# EAGLE library part 929974-01-06-RK (library SamacSys_Parts)
Conn Socket Strip SKT 6 POS 2.54mm Solder ST Thru-Hole Source: Datasheet <https://www.arrow.com/en/products/929974-01-06-rk/3m>
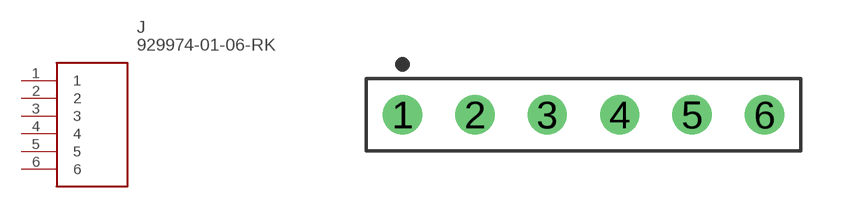
[diagram p0: symbol with the pads of 929974-01-06-RK; footprint 929974-01-06-RK]

Designator prefix J

## 929974-01-06-RK929974-01-06-RK  [929974-01-06-RK]
1  1
2  2
3  3
4  4
5  5
6  6

## Footprint 929974-01-06-RK (pad centres in mm)
Single-row, 6-pin Receptacle Header (Female) Straight, 2.54 mm (0.10 in) col pitch, 8.26 mm insulator length, 15.24 X 2.54 X 8.26 mm body Single-row (1X6), 6-pin Receptacle Header (Female) Straight package with 2.54 mm (0.10 in) col pitch, 0.41 mm lead width, 3.18 mm tail length and 8.26 mm insulator length with overall size 15.24 X 2.54 X 8.26 mm, pin pattern - clockwise from top left
drill 0.78 pad 1.38: 1 0,0; 2 2.54,0; 3 5.08,0; 4 7.62,0; 5 10.16,0; 6 12.7,0